# Altium schematic symbol library Schlib2.SchLib: 7 symbols
Pins are listed as number, name and electrical type; pins without a type are passive.

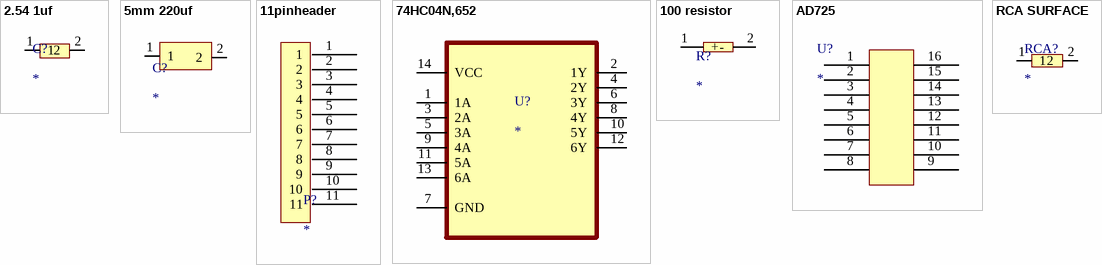
[diagram p0: symbols 2.54 1uf to RCA SURFACE]

## 2.54 1uf
designator C?
footprint 2.54mm 1uf
pins: 1, 2

## 5mm 220uf
designator C?
footprint 5mm 220uF
pins: 1, 2

## 11pinheader
designator P?
footprint 11xpinheader
pins: 1, 2, 3, 4, 5, 6, 7, 8, 9, 10, 11

## 74HC04N,652
designator U?
Inverter IC 6 Channel 14-DIP; MP: 74HC04N,652; MF: NXP USA; Value: *; Availability: Unavailable; SnapEDA_Link: https://www.snapeda.com/parts/74HC04N,652/NXP%20USA%20Inc./view-part/643968/?ref=snap; Price: None; Package: DIP-14 Nexperia
footprint DIP254P762X420-14
pins: 1 1A, 2 1Y, 3 2A, 4 2Y, 5 3A, 6 3Y, 7 GND, 8 4Y, 9 4A, 10 5Y, 11 5A, 12 6Y, 13 6A, 14 VCC

## 100 resistor
designator R?
footprint 100 resistor
pins: 1 +, 2 -

## AD725
designator U?
footprint AD725 SOIC16 (SOIC, 16-Leads, Body 10,25x7,50mm, Pitch 1,27mm, IPC Medium Density)
pins: 1, 2, 3, 4, 5, 6, 7, 8, 9, 10, 11, 12, 13, 14, 15, 16

## RCA SURFACE
designator RCA?
footprint RCA SURFACE
pins: 1, 2